# Altium footprint library PCB - CONNECTOR - MOLEX - MOLEX 1720650012.PcbLib: 1 footprints
Each footprint in its own frame and in the unit in brackets; x right, y up, seen from the top. Pads: shape width x height; smd on the part's side, far side on the other; paste and mask are expansions set on the pad; w line width, h text height; cw(c..) or ccw(c..) is an arc to the next point about the centre after c.
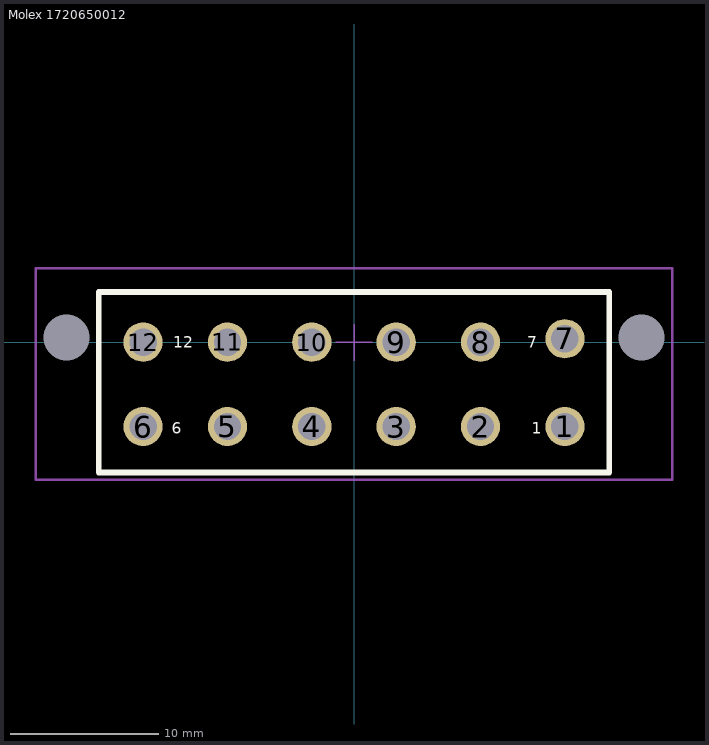
[diagram p0: the footprint, top view; thin cyan lines are the x and y axes]

## Molex 1720650012 [mm]
height 14.8
pads (14):
  round 2.65 hole 1.85 mask+0.1: 1(14.25,-5.7) 2(8.55,-5.7) 3(2.85,-5.7) 4(-2.85,-5.7) 5(-8.55,-5.7) 6(-14.25,-5.7) 7(14.25,0.23) 8(8.55,0) 9(2.85,0) 10(-2.85,0) 11(-8.55,0) 12(-14.25,0)
  round 0 hole 3.1 unplated mask+0.2: HOLE(-19.42,0.325) HOLE(19.42,0.325)
Top Overlay:
  lines w0.4: -17.25,-8.8 -17.25,3.4 17.25,3.4 17.25,-8.8 -17.25,-8.8
  text "1" at 12.023,-6.181 h0.76
  text "7" at 11.696,-0.381 h0.76
  text "6" at -12.304,-6.181 h0.76
  text "12" at -12.221,-0.381 h0.76
Mechanical 13:
  lines w0.1: -17.25,-8.9 -17.25,3.302 17.25,3.302 17.25,-8.9 -17.25,-8.9
Mechanical 15 (Mech15):
  lines w0.1: -1.25,0 0,0 ; 0,-1.25 0,0 ; 0,1.2 0,0 ; 1.25,0 0,0
  lines w0.15: -21.5,-9.3 -21.5,5 21.5,5 21.5,-9.3 -21.5,-9.3
3D body "Molex - 1720650012.stp": height 14.88, standoff -3.7, extent -20.945,-9 20.945,5.034